# Altium schematic symbol library RF Sheet(1).SchLib: 9 symbols
Pins are listed as number, name and electrical type; pins without a type are passive.

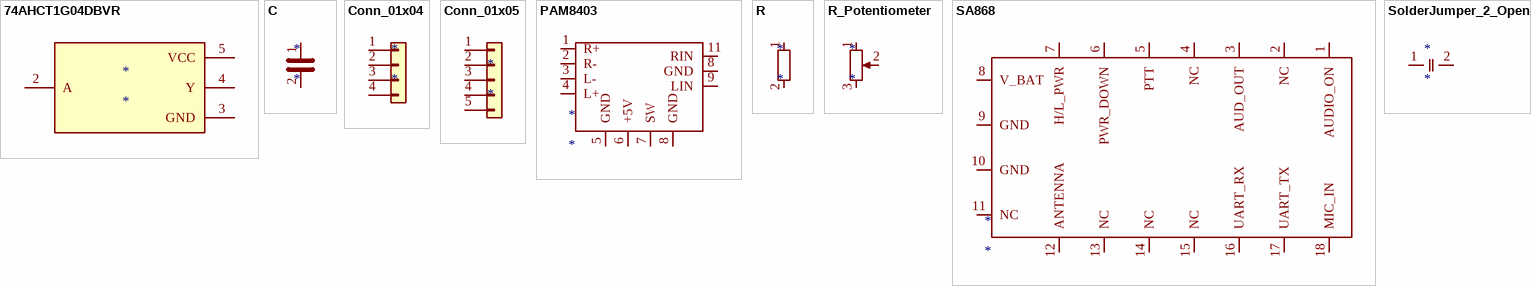
[diagram p0: symbols 74AHCT1G04DBVR to SolderJumper_2_Open]

## 74AHCT1G04DBVR
designator *
pins: 2 A, 3 GND, 4 Y, 5 VCC

## C
designator *
pins: 1, 2

## Conn_01x04
designator *
pins: 1 Pin_1, 2 Pin_2, 3 Pin_3, 4 Pin_4

## Conn_01x05
designator *
pins: 1 Pin_1, 2 Pin_2, 3 Pin_3, 4 Pin_4, 5 Pin_5

## PAM8403
designator *
pins: 1 R+, 2 R-, 3 L-, 4 L+, 5 GND, 6 +5V, 7 SW, 8 GND, 8 GND, 9 LIN, 11 RIN

## R
designator *
pins: 1, 2

## R_Potentiometer
designator *
pins: 1, 2, 3

## SA868
designator *
pins: 1 AUDIO_ON, 2 NC, 3 AUD_OUT, 4 NC, 5 PTT, 6 PWR_DOWN, 7 H/L_PWR, 8 V_BAT, 9 GND, 10 GND, 11 NC, 12 ANTENNA, 13 NC, 14 NC, 15 NC, 16 UART_RX, 17 UART_TX, 18 MIC_IN

## SolderJumper_2_Open
designator *
pins: 1 A, 2 B